# Altium footprint library Connector_PinSocket_1.27mm.PcbLib: 246 footprints (part 7 of 16)
Each footprint in its own frame and in the unit in brackets; x right, y up, seen from the top. Pads: shape width x height; smd on the part's side, far side on the other; paste and mask are expansions set on the pad; w line width, h text height; cw(c..) or ccw(c..) is an arc to the next point about the centre after c.
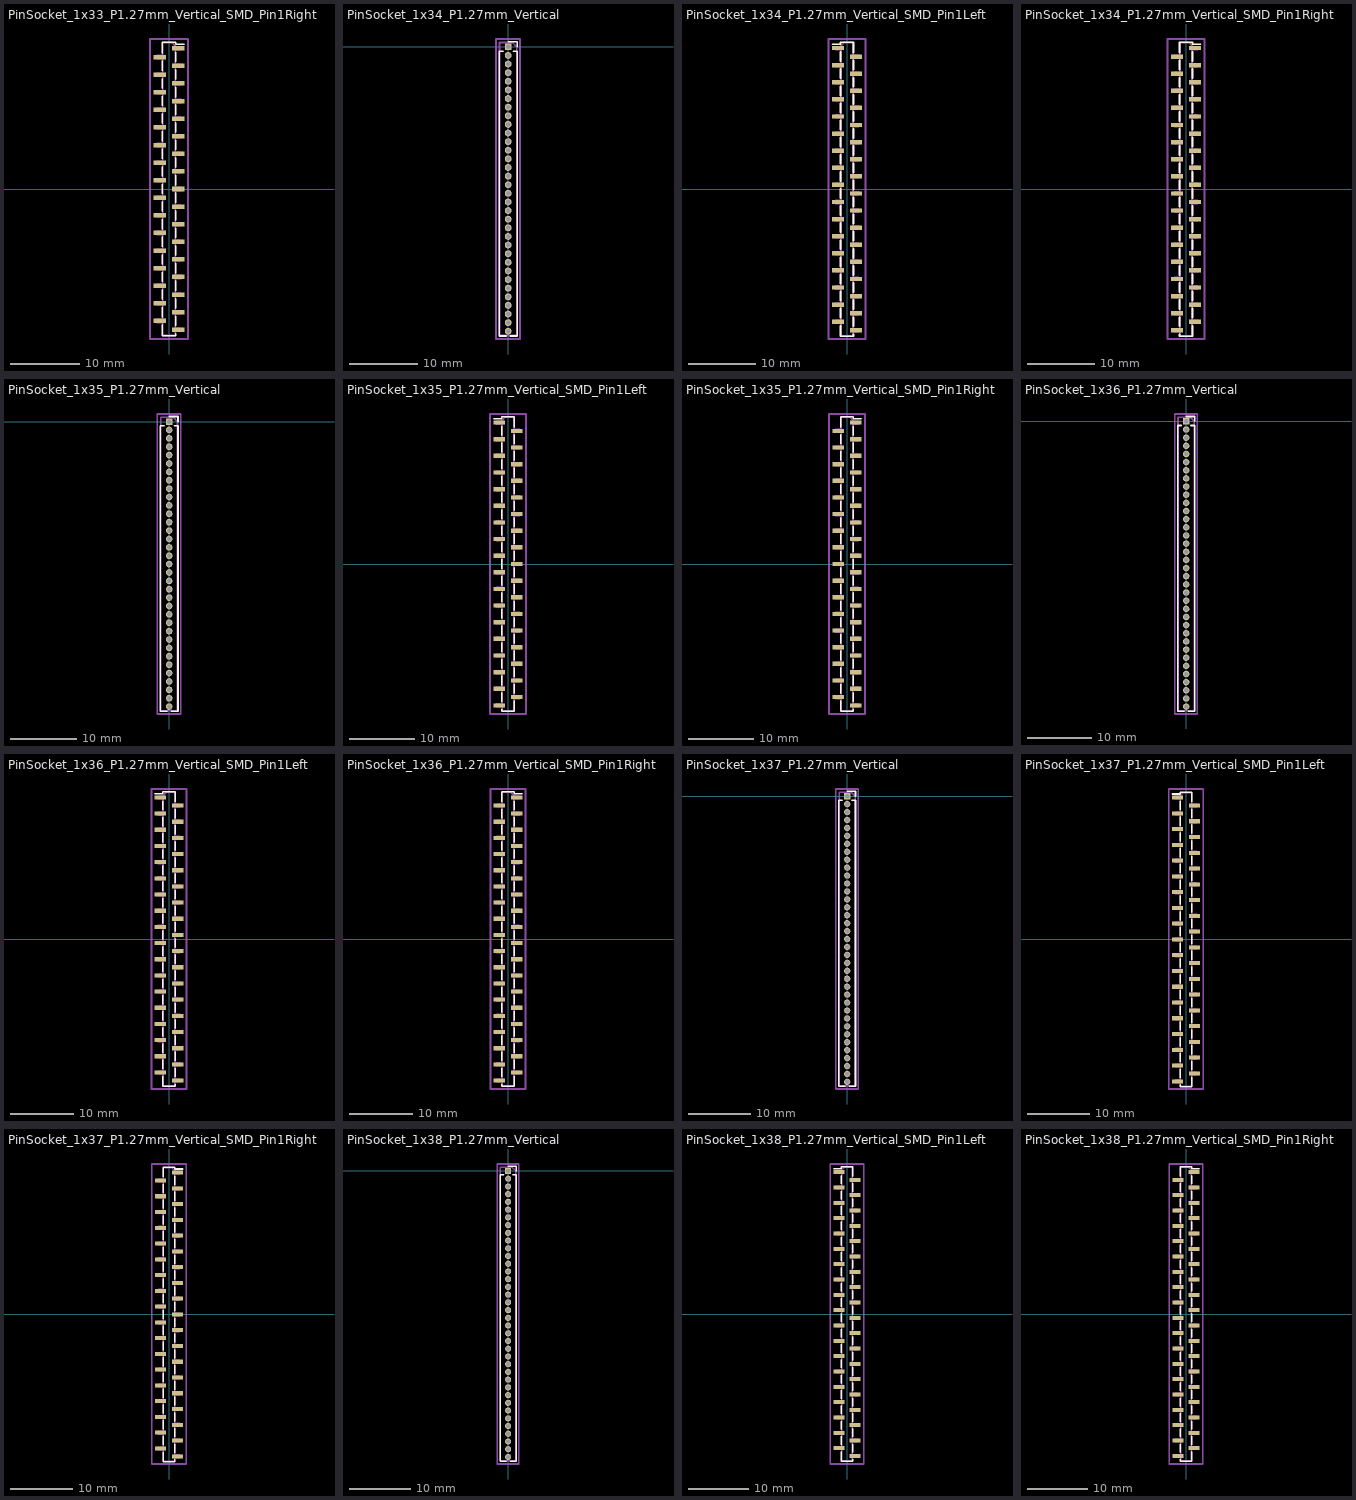
[diagram p6: the footprints below, top view; thin cyan lines are the x and y axes]

## PinSocket_1x33_P1.27mm_Vertical_SMD_Pin1Right [mm]
pads (33):
  rect 1.8x0.65 smd: 1(1.35,20.32) 2(-1.35,19.05) 3(1.35,17.78) 4(-1.35,16.51) 5(1.35,15.24) 6(-1.35,13.97) 7(1.35,12.7) 8(-1.35,11.43) 9(1.35,10.16) 10(-1.35,8.89) 11(1.35,7.62) 12(-1.35,6.35) 13(1.35,5.08) 14(-1.35,3.81) 15(1.35,2.54) 16(-1.35,1.27) 17(1.35,0) 18(-1.35,-1.27) 19(1.35,-2.54) 20(-1.35,-3.81) 21(1.35,-5.08) 22(-1.35,-6.35) 23(1.35,-7.62) 24(-1.35,-8.89) 25(1.35,-10.16) 26(-1.35,-11.43) 27(1.35,-12.7) 28(-1.35,-13.97) 29(1.35,-15.24) 30(-1.35,-16.51) 31(1.35,-17.78) 32(-1.35,-19.05) 33(1.35,-20.32)
F.SilkS:
  lines w0.254: -0.96,-19.635 -0.96,-21.19 0.96,-21.19 0.96,-20.905 ; -0.96,-18.465 -0.96,-17.095 ; -0.96,-15.925 -0.96,-14.555 ; -0.96,-13.385 -0.96,-12.015 ; -0.96,-10.845 -0.96,-9.475 ; -0.96,-8.305 -0.96,-6.935 ; -0.96,-5.765 -0.96,-4.395 ; -0.96,-3.225 -0.96,-1.855 ; -0.96,-0.685 -0.96,0.685 ; -0.96,1.855 -0.96,3.225 ; -0.96,4.395 -0.96,5.765 ; -0.96,6.935 -0.96,8.305 ; -0.96,9.475 -0.96,10.845 ; -0.96,12.015 -0.96,13.385 ; -0.96,14.555 -0.96,15.925 ; -0.96,17.095 -0.96,18.465 ; -0.96,19.635 -0.96,21.19 0.96,21.19 0.96,20.905 2.19,20.905 ; 0.96,-19.735 0.96,-18.365 ; 0.96,-17.195 0.96,-15.825 ; 0.96,-14.655 0.96,-13.285 ; 0.96,-12.115 0.96,-10.745 ; 0.96,-9.575 0.96,-8.205 ; 0.96,-7.035 0.96,-5.665 ; 0.96,-4.495 0.96,-3.125 ; 0.96,-1.955 0.96,-0.585 ; 0.96,0.585 0.96,1.955 ; 0.96,3.125 0.96,4.495 ; 0.96,5.665 0.96,7.035 ; 0.96,8.205 0.96,9.575 ; 0.96,10.745 0.96,12.115 ; 0.96,13.285 0.96,14.655 ; 0.96,15.825 0.96,17.195 ; 0.96,18.365 0.96,19.735
Top Assembly:
  lines w0.254: -0.9,-19.26 -1.75,-19.26 -1.75,-18.84 -0.9,-18.84 ; -0.9,-16.72 -1.75,-16.72 -1.75,-16.3 -0.9,-16.3 ; -0.9,-14.18 -1.75,-14.18 -1.75,-13.76 -0.9,-13.76 ; -0.9,-11.64 -1.75,-11.64 -1.75,-11.22 -0.9,-11.22 ; -0.9,-9.1 -1.75,-9.1 -1.75,-8.68 -0.9,-8.68 ; -0.9,-6.56 -1.75,-6.56 -1.75,-6.14 -0.9,-6.14 ; -0.9,-4.02 -1.75,-4.02 -1.75,-3.6 -0.9,-3.6 ; -0.9,-1.48 -1.75,-1.48 -1.75,-1.06 -0.9,-1.06 ; -0.9,1.06 -1.75,1.06 -1.75,1.48 -0.9,1.48 ; -0.9,3.6 -1.75,3.6 -1.75,4.02 -0.9,4.02 ; -0.9,6.14 -1.75,6.14 -1.75,6.56 -0.9,6.56 ; -0.9,8.68 -1.75,8.68 -1.75,9.1 -0.9,9.1 ; -0.9,11.22 -1.75,11.22 -1.75,11.64 -0.9,11.64 ; -0.9,13.76 -1.75,13.76 -1.75,14.18 -0.9,14.18 ; -0.9,16.3 -1.75,16.3 -1.75,16.72 -0.9,16.72 ; -0.9,18.84 -1.75,18.84 -1.75,19.26 -0.9,19.26 ; 0.9,-20.53 1.75,-20.53 1.75,-20.11 0.9,-20.11 ; 0.9,-17.99 1.75,-17.99 1.75,-17.57 0.9,-17.57 ; 0.9,-15.45 1.75,-15.45 1.75,-15.03 0.9,-15.03 ; 0.9,-12.91 1.75,-12.91 1.75,-12.49 0.9,-12.49 ; 0.9,-10.37 1.75,-10.37 1.75,-9.95 0.9,-9.95 ; 0.9,-7.83 1.75,-7.83 1.75,-7.41 0.9,-7.41 ; 0.9,-5.29 1.75,-5.29 1.75,-4.87 0.9,-4.87 ; 0.9,-2.75 1.75,-2.75 1.75,-2.33 0.9,-2.33 ; 0.9,-0.21 1.75,-0.21 1.75,0.21 0.9,0.21 ; 0.9,2.33 1.75,2.33 1.75,2.75 0.9,2.75 ; 0.9,4.87 1.75,4.87 1.75,5.29 0.9,5.29 ; 0.9,7.41 1.75,7.41 1.75,7.83 0.9,7.83 ; 0.9,9.95 1.75,9.95 1.75,10.37 0.9,10.37 ; 0.9,12.49 1.75,12.49 1.75,12.91 0.9,12.91 ; 0.9,15.03 1.75,15.03 1.75,15.45 0.9,15.45 ; 0.9,17.57 1.75,17.57 1.75,17.99 0.9,17.99 ; 0.9,20.11 1.75,20.11 1.75,20.53 0.9,20.53 ; -0.9,-21.13 0.9,-21.13 0.9,20.68 0.45,21.13 -0.9,21.13 -0.9,-21.13
  text "'.Designator'" at 0.84,-4.047 h1
Top Courtyard:
  lines w0.254: -2.75,-21.65 2.75,-21.65 2.75,21.65 -2.75,21.65 -2.75,-21.65
Top Designator:
  text ".Designator" at -7.618,-0.508 h1.52

## PinSocket_1x34_P1.27mm_Vertical [mm]
pads (34):
  rect 1x1 hole 0.7: 1(0,0)
  round 1 hole 0.7: 2(0,-1.27) 3(0,-2.54) 4(0,-3.81) 5(0,-5.08) 6(0,-6.35) 7(0,-7.62) 8(0,-8.89) 9(0,-10.16) 10(0,-11.43) 11(0,-12.7) 12(0,-13.97) 13(0,-15.24) 14(0,-16.51) 15(0,-17.78) 16(0,-19.05) 17(0,-20.32) 18(0,-21.59) 19(0,-22.86) 20(0,-24.13) 21(0,-25.4) 22(0,-26.67) 23(0,-27.94) 24(0,-29.21) 25(0,-30.48) 26(0,-31.75) 27(0,-33.02) 28(0,-34.29) 29(0,-35.56) 30(0,-36.83) 31(0,-38.1) 32(0,-39.37) 33(0,-40.64) 34(0,-41.91)
F.SilkS:
  lines w0.254: -0.76,-0.635 -1.33,-0.635 -1.33,-42.605 -0.308,-42.605 ; 0,0.76 1.33,0.76 1.33,0 ; 0.308,-42.605 1.33,-42.605 1.33,-0.635 0.76,-0.635
Top Assembly:
  lines w0.254: -1.27,-42.545 1.27,-42.545 1.27,0 0.635,0.635 -1.27,0.635 -1.27,-42.545
  text "'.Designator'" at 0.84,-25.002 h1
Top Courtyard:
  lines w0.254: -1.8,-43.05 1.75,-43.05 1.75,1.15 -1.8,1.15 -1.8,-43.05
Top Designator:
  text ".Designator" at -7.643,-21.458 h1.52

## PinSocket_1x34_P1.27mm_Vertical_SMD_Pin1Left [mm]
pads (34):
  rect 1.8x0.65 smd: 1(-1.35,20.955) 2(1.35,19.685) 3(-1.35,18.415) 4(1.35,17.145) 5(-1.35,15.875) 6(1.35,14.605) 7(-1.35,13.335) 8(1.35,12.065) 9(-1.35,10.795) 10(1.35,9.525) 11(-1.35,8.255) 12(1.35,6.985) 13(-1.35,5.715) 14(1.35,4.445) 15(-1.35,3.175) 16(1.35,1.905) 17(-1.35,0.635) 18(1.35,-0.635) 19(-1.35,-1.905) 20(1.35,-3.175) 21(-1.35,-4.445) 22(1.35,-5.715) 23(-1.35,-6.985) 24(1.35,-8.255) 25(-1.35,-9.525) 26(1.35,-10.795) 27(-1.35,-12.065) 28(1.35,-13.335) 29(-1.35,-14.605) 30(1.35,-15.875) 31(-1.35,-17.145) 32(1.35,-18.415) 33(-1.35,-19.685) 34(1.35,-20.955)
F.SilkS:
  lines w0.254: -2.19,21.54 -0.96,21.54 -0.96,21.825 0.96,21.825 0.96,20.27 ; -0.96,-20.27 -0.96,-21.825 0.96,-21.825 0.96,-21.54 ; -0.96,-19.1 -0.96,-17.73 ; -0.96,-16.56 -0.96,-15.19 ; -0.96,-14.02 -0.96,-12.65 ; -0.96,-11.48 -0.96,-10.11 ; -0.96,-8.94 -0.96,-7.57 ; -0.96,-6.4 -0.96,-5.03 ; -0.96,-3.86 -0.96,-2.49 ; -0.96,-1.32 -0.96,0.05 ; -0.96,1.22 -0.96,2.59 ; -0.96,3.76 -0.96,5.13 ; -0.96,6.3 -0.96,7.67 ; -0.96,8.84 -0.96,10.21 ; -0.96,11.38 -0.96,12.75 ; -0.96,13.92 -0.96,15.29 ; -0.96,16.46 -0.96,17.83 ; -0.96,19 -0.96,20.37 ; 0.96,-20.37 0.96,-19 ; 0.96,-17.83 0.96,-16.46 ; 0.96,-15.29 0.96,-13.92 ; 0.96,-12.75 0.96,-11.38 ; 0.96,-10.21 0.96,-8.84 ; 0.96,-7.67 0.96,-6.3 ; 0.96,-5.13 0.96,-3.76 ; 0.96,-2.59 0.96,-1.22 ; 0.96,-0.05 0.96,1.32 ; 0.96,2.49 0.96,3.86 ; 0.96,5.03 0.96,6.4 ; 0.96,7.57 0.96,8.94 ; 0.96,10.11 0.96,11.48 ; 0.96,12.65 0.96,14.02 ; 0.96,15.19 0.96,16.56 ; 0.96,17.73 0.96,19.1
Top Assembly:
  lines w0.254: -0.9,-19.895 -1.75,-19.895 -1.75,-19.475 -0.9,-19.475 ; -0.9,-17.355 -1.75,-17.355 -1.75,-16.935 -0.9,-16.935 ; -0.9,-14.815 -1.75,-14.815 -1.75,-14.395 -0.9,-14.395 ; -0.9,-12.275 -1.75,-12.275 -1.75,-11.855 -0.9,-11.855 ; -0.9,-9.735 -1.75,-9.735 -1.75,-9.315 -0.9,-9.315 ; -0.9,-7.195 -1.75,-7.195 -1.75,-6.775 -0.9,-6.775 ; -0.9,-4.655 -1.75,-4.655 -1.75,-4.235 -0.9,-4.235 ; -0.9,-2.115 -1.75,-2.115 -1.75,-1.695 -0.9,-1.695 ; -0.9,0.425 -1.75,0.425 -1.75,0.845 -0.9,0.845 ; -0.9,2.965 -1.75,2.965 -1.75,3.385 -0.9,3.385 ; -0.9,5.505 -1.75,5.505 -1.75,5.925 -0.9,5.925 ; -0.9,8.045 -1.75,8.045 -1.75,8.465 -0.9,8.465 ; -0.9,10.585 -1.75,10.585 -1.75,11.005 -0.9,11.005 ; -0.9,13.125 -1.75,13.125 -1.75,13.545 -0.9,13.545 ; -0.9,15.665 -1.75,15.665 -1.75,16.085 -0.9,16.085 ; -0.9,18.205 -1.75,18.205 -1.75,18.625 -0.9,18.625 ; -0.9,20.745 -1.75,20.745 -1.75,21.165 -0.9,21.165 ; 0.9,-21.165 1.75,-21.165 1.75,-20.745 0.9,-20.745 ; 0.9,-18.625 1.75,-18.625 1.75,-18.205 0.9,-18.205 ; 0.9,-16.085 1.75,-16.085 1.75,-15.665 0.9,-15.665 ; 0.9,-13.545 1.75,-13.545 1.75,-13.125 0.9,-13.125 ; 0.9,-11.005 1.75,-11.005 1.75,-10.585 0.9,-10.585 ; 0.9,-8.465 1.75,-8.465 1.75,-8.045 0.9,-8.045 ; 0.9,-5.925 1.75,-5.925 1.75,-5.505 0.9,-5.505 ; 0.9,-3.385 1.75,-3.385 1.75,-2.965 0.9,-2.965 ; 0.9,-0.845 1.75,-0.845 1.75,-0.425 0.9,-0.425 ; 0.9,1.695 1.75,1.695 1.75,2.115 0.9,2.115 ; 0.9,4.235 1.75,4.235 1.75,4.655 0.9,4.655 ; 0.9,6.775 1.75,6.775 1.75,7.195 0.9,7.195 ; 0.9,9.315 1.75,9.315 1.75,9.735 0.9,9.735 ; 0.9,11.855 1.75,11.855 1.75,12.275 0.9,12.275 ; 0.9,14.395 1.75,14.395 1.75,14.815 0.9,14.815 ; 0.9,16.935 1.75,16.935 1.75,17.355 0.9,17.355 ; 0.9,19.475 1.75,19.475 1.75,19.895 0.9,19.895 ; -0.9,-21.765 0.9,-21.765 0.9,21.765 -0.45,21.765 -0.9,21.315 -0.9,-21.765
  text "'.Designator'" at 0.84,-4.047 h1
Top Courtyard:
  lines w0.254: -2.75,-22.25 2.75,-22.25 2.75,22.3 -2.75,22.3 -2.75,-22.25
Top Designator:
  text ".Designator" at -7.618,-0.483 h1.52

## PinSocket_1x34_P1.27mm_Vertical_SMD_Pin1Right [mm]
pads (34):
  rect 1.8x0.65 smd: 1(1.35,20.955) 2(-1.35,19.685) 3(1.35,18.415) 4(-1.35,17.145) 5(1.35,15.875) 6(-1.35,14.605) 7(1.35,13.335) 8(-1.35,12.065) 9(1.35,10.795) 10(-1.35,9.525) 11(1.35,8.255) 12(-1.35,6.985) 13(1.35,5.715) 14(-1.35,4.445) 15(1.35,3.175) 16(-1.35,1.905) 17(1.35,0.635) 18(-1.35,-0.635) 19(1.35,-1.905) 20(-1.35,-3.175) 21(1.35,-4.445) 22(-1.35,-5.715) 23(1.35,-6.985) 24(-1.35,-8.255) 25(1.35,-9.525) 26(-1.35,-10.795) 27(1.35,-12.065) 28(-1.35,-13.335) 29(1.35,-14.605) 30(-1.35,-15.875) 31(1.35,-17.145) 32(-1.35,-18.415) 33(1.35,-19.685) 34(-1.35,-20.955)
F.SilkS:
  lines w0.254: -0.96,-21.54 -0.96,-21.825 0.96,-21.825 0.96,-20.27 ; -0.96,-20.37 -0.96,-19 ; -0.96,-17.83 -0.96,-16.46 ; -0.96,-15.29 -0.96,-13.92 ; -0.96,-12.75 -0.96,-11.38 ; -0.96,-10.21 -0.96,-8.84 ; -0.96,-7.67 -0.96,-6.3 ; -0.96,-5.13 -0.96,-3.76 ; -0.96,-2.59 -0.96,-1.22 ; -0.96,-0.05 -0.96,1.32 ; -0.96,2.49 -0.96,3.86 ; -0.96,5.03 -0.96,6.4 ; -0.96,7.57 -0.96,8.94 ; -0.96,10.11 -0.96,11.48 ; -0.96,12.65 -0.96,14.02 ; -0.96,15.19 -0.96,16.56 ; -0.96,17.73 -0.96,19.1 ; -0.96,20.27 -0.96,21.825 0.96,21.825 0.96,21.54 2.19,21.54 ; 0.96,-19.1 0.96,-17.73 ; 0.96,-16.56 0.96,-15.19 ; 0.96,-14.02 0.96,-12.65 ; 0.96,-11.48 0.96,-10.11 ; 0.96,-8.94 0.96,-7.57 ; 0.96,-6.4 0.96,-5.03 ; 0.96,-3.86 0.96,-2.49 ; 0.96,-1.32 0.96,0.05 ; 0.96,1.22 0.96,2.59 ; 0.96,3.76 0.96,5.13 ; 0.96,6.3 0.96,7.67 ; 0.96,8.84 0.96,10.21 ; 0.96,11.38 0.96,12.75 ; 0.96,13.92 0.96,15.29 ; 0.96,16.46 0.96,17.83 ; 0.96,19 0.96,20.37
Top Assembly:
  lines w0.254: -0.9,-21.165 -1.75,-21.165 -1.75,-20.745 -0.9,-20.745 ; -0.9,-18.625 -1.75,-18.625 -1.75,-18.205 -0.9,-18.205 ; -0.9,-16.085 -1.75,-16.085 -1.75,-15.665 -0.9,-15.665 ; -0.9,-13.545 -1.75,-13.545 -1.75,-13.125 -0.9,-13.125 ; -0.9,-11.005 -1.75,-11.005 -1.75,-10.585 -0.9,-10.585 ; -0.9,-8.465 -1.75,-8.465 -1.75,-8.045 -0.9,-8.045 ; -0.9,-5.925 -1.75,-5.925 -1.75,-5.505 -0.9,-5.505 ; -0.9,-3.385 -1.75,-3.385 -1.75,-2.965 -0.9,-2.965 ; -0.9,-0.845 -1.75,-0.845 -1.75,-0.425 -0.9,-0.425 ; -0.9,1.695 -1.75,1.695 -1.75,2.115 -0.9,2.115 ; -0.9,4.235 -1.75,4.235 -1.75,4.655 -0.9,4.655 ; -0.9,6.775 -1.75,6.775 -1.75,7.195 -0.9,7.195 ; -0.9,9.315 -1.75,9.315 -1.75,9.735 -0.9,9.735 ; -0.9,11.855 -1.75,11.855 -1.75,12.275 -0.9,12.275 ; -0.9,14.395 -1.75,14.395 -1.75,14.815 -0.9,14.815 ; -0.9,16.935 -1.75,16.935 -1.75,17.355 -0.9,17.355 ; -0.9,19.475 -1.75,19.475 -1.75,19.895 -0.9,19.895 ; 0.9,-19.895 1.75,-19.895 1.75,-19.475 0.9,-19.475 ; 0.9,-17.355 1.75,-17.355 1.75,-16.935 0.9,-16.935 ; 0.9,-14.815 1.75,-14.815 1.75,-14.395 0.9,-14.395 ; 0.9,-12.275 1.75,-12.275 1.75,-11.855 0.9,-11.855 ; 0.9,-9.735 1.75,-9.735 1.75,-9.315 0.9,-9.315 ; 0.9,-7.195 1.75,-7.195 1.75,-6.775 0.9,-6.775 ; 0.9,-4.655 1.75,-4.655 1.75,-4.235 0.9,-4.235 ; 0.9,-2.115 1.75,-2.115 1.75,-1.695 0.9,-1.695 ; 0.9,0.425 1.75,0.425 1.75,0.845 0.9,0.845 ; 0.9,2.965 1.75,2.965 1.75,3.385 0.9,3.385 ; 0.9,5.505 1.75,5.505 1.75,5.925 0.9,5.925 ; 0.9,8.045 1.75,8.045 1.75,8.465 0.9,8.465 ; 0.9,10.585 1.75,10.585 1.75,11.005 0.9,11.005 ; 0.9,13.125 1.75,13.125 1.75,13.545 0.9,13.545 ; 0.9,15.665 1.75,15.665 1.75,16.085 0.9,16.085 ; 0.9,18.205 1.75,18.205 1.75,18.625 0.9,18.625 ; 0.9,20.745 1.75,20.745 1.75,21.165 0.9,21.165 ; -0.9,-21.765 0.9,-21.765 0.9,21.315 0.45,21.765 -0.9,21.765 -0.9,-21.765
  text "'.Designator'" at 0.84,-4.047 h1
Top Courtyard:
  lines w0.254: -2.75,-22.25 2.75,-22.25 2.75,22.3 -2.75,22.3 -2.75,-22.25
Top Designator:
  text ".Designator" at -7.618,-0.483 h1.52

## PinSocket_1x35_P1.27mm_Vertical [mm]
pads (35):
  rect 1x1 hole 0.7: 1(0,0)
  round 1 hole 0.7: 2(0,-1.27) 3(0,-2.54) 4(0,-3.81) 5(0,-5.08) 6(0,-6.35) 7(0,-7.62) 8(0,-8.89) 9(0,-10.16) 10(0,-11.43) 11(0,-12.7) 12(0,-13.97) 13(0,-15.24) 14(0,-16.51) 15(0,-17.78) 16(0,-19.05) 17(0,-20.32) 18(0,-21.59) 19(0,-22.86) 20(0,-24.13) 21(0,-25.4) 22(0,-26.67) 23(0,-27.94) 24(0,-29.21) 25(0,-30.48) 26(0,-31.75) 27(0,-33.02) 28(0,-34.29) 29(0,-35.56) 30(0,-36.83) 31(0,-38.1) 32(0,-39.37) 33(0,-40.64) 34(0,-41.91) 35(0,-43.18)
F.SilkS:
  lines w0.254: -0.76,-0.635 -1.33,-0.635 -1.33,-43.875 -0.308,-43.875 ; 0,0.76 1.33,0.76 1.33,0 ; 0.308,-43.875 1.33,-43.875 1.33,-0.635 0.76,-0.635
Top Assembly:
  lines w0.254: -1.27,-43.815 1.27,-43.815 1.27,0 0.635,0.635 -1.27,0.635 -1.27,-43.815
  text "'.Designator'" at 0.84,-25.637 h1
Top Courtyard:
  lines w0.254: -1.8,-44.3 1.75,-44.3 1.75,1.15 -1.8,1.15 -1.8,-44.3
Top Designator:
  text ".Designator" at -7.643,-22.083 h1.52

## PinSocket_1x35_P1.27mm_Vertical_SMD_Pin1Left [mm]
pads (35):
  rect 1.8x0.65 smd: 1(-1.35,21.59) 2(1.35,20.32) 3(-1.35,19.05) 4(1.35,17.78) 5(-1.35,16.51) 6(1.35,15.24) 7(-1.35,13.97) 8(1.35,12.7) 9(-1.35,11.43) 10(1.35,10.16) 11(-1.35,8.89) 12(1.35,7.62) 13(-1.35,6.35) 14(1.35,5.08) 15(-1.35,3.81) 16(1.35,2.54) 17(-1.35,1.27) 18(1.35,0) 19(-1.35,-1.27) 20(1.35,-2.54) 21(-1.35,-3.81) 22(1.35,-5.08) 23(-1.35,-6.35) 24(1.35,-7.62) 25(-1.35,-8.89) 26(1.35,-10.16) 27(-1.35,-11.43) 28(1.35,-12.7) 29(-1.35,-13.97) 30(1.35,-15.24) 31(-1.35,-16.51) 32(1.35,-17.78) 33(-1.35,-19.05) 34(1.35,-20.32) 35(-1.35,-21.59)
F.SilkS:
  lines w0.254: -2.19,22.175 -0.96,22.175 -0.96,22.46 0.96,22.46 0.96,20.905 ; -0.96,-22.175 -0.96,-22.46 0.96,-22.46 0.96,-20.905 ; -0.96,-21.005 -0.96,-19.635 ; -0.96,-18.465 -0.96,-17.095 ; -0.96,-15.925 -0.96,-14.555 ; -0.96,-13.385 -0.96,-12.015 ; -0.96,-10.845 -0.96,-9.475 ; -0.96,-8.305 -0.96,-6.935 ; -0.96,-5.765 -0.96,-4.395 ; -0.96,-3.225 -0.96,-1.855 ; -0.96,-0.685 -0.96,0.685 ; -0.96,1.855 -0.96,3.225 ; -0.96,4.395 -0.96,5.765 ; -0.96,6.935 -0.96,8.305 ; -0.96,9.475 -0.96,10.845 ; -0.96,12.015 -0.96,13.385 ; -0.96,14.555 -0.96,15.925 ; -0.96,17.095 -0.96,18.465 ; -0.96,19.635 -0.96,21.005 ; 0.96,-19.735 0.96,-18.365 ; 0.96,-17.195 0.96,-15.825 ; 0.96,-14.655 0.96,-13.285 ; 0.96,-12.115 0.96,-10.745 ; 0.96,-9.575 0.96,-8.205 ; 0.96,-7.035 0.96,-5.665 ; 0.96,-4.495 0.96,-3.125 ; 0.96,-1.955 0.96,-0.585 ; 0.96,0.585 0.96,1.955 ; 0.96,3.125 0.96,4.495 ; 0.96,5.665 0.96,7.035 ; 0.96,8.205 0.96,9.575 ; 0.96,10.745 0.96,12.115 ; 0.96,13.285 0.96,14.655 ; 0.96,15.825 0.96,17.195 ; 0.96,18.365 0.96,19.735
Top Assembly:
  lines w0.254: -0.9,-21.8 -1.75,-21.8 -1.75,-21.38 -0.9,-21.38 ; -0.9,-19.26 -1.75,-19.26 -1.75,-18.84 -0.9,-18.84 ; -0.9,-16.72 -1.75,-16.72 -1.75,-16.3 -0.9,-16.3 ; -0.9,-14.18 -1.75,-14.18 -1.75,-13.76 -0.9,-13.76 ; -0.9,-11.64 -1.75,-11.64 -1.75,-11.22 -0.9,-11.22 ; -0.9,-9.1 -1.75,-9.1 -1.75,-8.68 -0.9,-8.68 ; -0.9,-6.56 -1.75,-6.56 -1.75,-6.14 -0.9,-6.14 ; -0.9,-4.02 -1.75,-4.02 -1.75,-3.6 -0.9,-3.6 ; -0.9,-1.48 -1.75,-1.48 -1.75,-1.06 -0.9,-1.06 ; -0.9,1.06 -1.75,1.06 -1.75,1.48 -0.9,1.48 ; -0.9,3.6 -1.75,3.6 -1.75,4.02 -0.9,4.02 ; -0.9,6.14 -1.75,6.14 -1.75,6.56 -0.9,6.56 ; -0.9,8.68 -1.75,8.68 -1.75,9.1 -0.9,9.1 ; -0.9,11.22 -1.75,11.22 -1.75,11.64 -0.9,11.64 ; -0.9,13.76 -1.75,13.76 -1.75,14.18 -0.9,14.18 ; -0.9,16.3 -1.75,16.3 -1.75,16.72 -0.9,16.72 ; -0.9,18.84 -1.75,18.84 -1.75,19.26 -0.9,19.26 ; -0.9,21.38 -1.75,21.38 -1.75,21.8 -0.9,21.8 ; 0.9,-20.53 1.75,-20.53 1.75,-20.11 0.9,-20.11 ; 0.9,-17.99 1.75,-17.99 1.75,-17.57 0.9,-17.57 ; 0.9,-15.45 1.75,-15.45 1.75,-15.03 0.9,-15.03 ; 0.9,-12.91 1.75,-12.91 1.75,-12.49 0.9,-12.49 ; 0.9,-10.37 1.75,-10.37 1.75,-9.95 0.9,-9.95 ; 0.9,-7.83 1.75,-7.83 1.75,-7.41 0.9,-7.41 ; 0.9,-5.29 1.75,-5.29 1.75,-4.87 0.9,-4.87 ; 0.9,-2.75 1.75,-2.75 1.75,-2.33 0.9,-2.33 ; 0.9,-0.21 1.75,-0.21 1.75,0.21 0.9,0.21 ; 0.9,2.33 1.75,2.33 1.75,2.75 0.9,2.75 ; 0.9,4.87 1.75,4.87 1.75,5.29 0.9,5.29 ; 0.9,7.41 1.75,7.41 1.75,7.83 0.9,7.83 ; 0.9,9.95 1.75,9.95 1.75,10.37 0.9,10.37 ; 0.9,12.49 1.75,12.49 1.75,12.91 0.9,12.91 ; 0.9,15.03 1.75,15.03 1.75,15.45 0.9,15.45 ; 0.9,17.57 1.75,17.57 1.75,17.99 0.9,17.99 ; 0.9,20.11 1.75,20.11 1.75,20.53 0.9,20.53 ; -0.9,-22.4 0.9,-22.4 0.9,22.4 -0.45,22.4 -0.9,21.95 -0.9,-22.4
  text "'.Designator'" at 0.84,-4.047 h1
Top Courtyard:
  lines w0.254: -2.75,-22.9 2.75,-22.9 2.75,22.9 -2.75,22.9 -2.75,-22.9
Top Designator:
  text ".Designator" at -7.618,-0.508 h1.52

## PinSocket_1x35_P1.27mm_Vertical_SMD_Pin1Right [mm]
pads (35):
  rect 1.8x0.65 smd: 1(1.35,21.59) 2(-1.35,20.32) 3(1.35,19.05) 4(-1.35,17.78) 5(1.35,16.51) 6(-1.35,15.24) 7(1.35,13.97) 8(-1.35,12.7) 9(1.35,11.43) 10(-1.35,10.16) 11(1.35,8.89) 12(-1.35,7.62) 13(1.35,6.35) 14(-1.35,5.08) 15(1.35,3.81) 16(-1.35,2.54) 17(1.35,1.27) 18(-1.35,0) 19(1.35,-1.27) 20(-1.35,-2.54) 21(1.35,-3.81) 22(-1.35,-5.08) 23(1.35,-6.35) 24(-1.35,-7.62) 25(1.35,-8.89) 26(-1.35,-10.16) 27(1.35,-11.43) 28(-1.35,-12.7) 29(1.35,-13.97) 30(-1.35,-15.24) 31(1.35,-16.51) 32(-1.35,-17.78) 33(1.35,-19.05) 34(-1.35,-20.32) 35(1.35,-21.59)
F.SilkS:
  lines w0.254: -0.96,-20.905 -0.96,-22.46 0.96,-22.46 0.96,-22.175 ; -0.96,-19.735 -0.96,-18.365 ; -0.96,-17.195 -0.96,-15.825 ; -0.96,-14.655 -0.96,-13.285 ; -0.96,-12.115 -0.96,-10.745 ; -0.96,-9.575 -0.96,-8.205 ; -0.96,-7.035 -0.96,-5.665 ; -0.96,-4.495 -0.96,-3.125 ; -0.96,-1.955 -0.96,-0.585 ; -0.96,0.585 -0.96,1.955 ; -0.96,3.125 -0.96,4.495 ; -0.96,5.665 -0.96,7.035 ; -0.96,8.205 -0.96,9.575 ; -0.96,10.745 -0.96,12.115 ; -0.96,13.285 -0.96,14.655 ; -0.96,15.825 -0.96,17.195 ; -0.96,18.365 -0.96,19.735 ; -0.96,20.905 -0.96,22.46 0.96,22.46 0.96,22.175 2.19,22.175 ; 0.96,-21.005 0.96,-19.635 ; 0.96,-18.465 0.96,-17.095 ; 0.96,-15.925 0.96,-14.555 ; 0.96,-13.385 0.96,-12.015 ; 0.96,-10.845 0.96,-9.475 ; 0.96,-8.305 0.96,-6.935 ; 0.96,-5.765 0.96,-4.395 ; 0.96,-3.225 0.96,-1.855 ; 0.96,-0.685 0.96,0.685 ; 0.96,1.855 0.96,3.225 ; 0.96,4.395 0.96,5.765 ; 0.96,6.935 0.96,8.305 ; 0.96,9.475 0.96,10.845 ; 0.96,12.015 0.96,13.385 ; 0.96,14.555 0.96,15.925 ; 0.96,17.095 0.96,18.465 ; 0.96,19.635 0.96,21.005
Top Assembly:
  lines w0.254: -0.9,-20.53 -1.75,-20.53 -1.75,-20.11 -0.9,-20.11 ; -0.9,-17.99 -1.75,-17.99 -1.75,-17.57 -0.9,-17.57 ; -0.9,-15.45 -1.75,-15.45 -1.75,-15.03 -0.9,-15.03 ; -0.9,-12.91 -1.75,-12.91 -1.75,-12.49 -0.9,-12.49 ; -0.9,-10.37 -1.75,-10.37 -1.75,-9.95 -0.9,-9.95 ; -0.9,-7.83 -1.75,-7.83 -1.75,-7.41 -0.9,-7.41 ; -0.9,-5.29 -1.75,-5.29 -1.75,-4.87 -0.9,-4.87 ; -0.9,-2.75 -1.75,-2.75 -1.75,-2.33 -0.9,-2.33 ; -0.9,-0.21 -1.75,-0.21 -1.75,0.21 -0.9,0.21 ; -0.9,2.33 -1.75,2.33 -1.75,2.75 -0.9,2.75 ; -0.9,4.87 -1.75,4.87 -1.75,5.29 -0.9,5.29 ; -0.9,7.41 -1.75,7.41 -1.75,7.83 -0.9,7.83 ; -0.9,9.95 -1.75,9.95 -1.75,10.37 -0.9,10.37 ; -0.9,12.49 -1.75,12.49 -1.75,12.91 -0.9,12.91 ; -0.9,15.03 -1.75,15.03 -1.75,15.45 -0.9,15.45 ; -0.9,17.57 -1.75,17.57 -1.75,17.99 -0.9,17.99 ; -0.9,20.11 -1.75,20.11 -1.75,20.53 -0.9,20.53 ; 0.9,-21.8 1.75,-21.8 1.75,-21.38 0.9,-21.38 ; 0.9,-19.26 1.75,-19.26 1.75,-18.84 0.9,-18.84 ; 0.9,-16.72 1.75,-16.72 1.75,-16.3 0.9,-16.3 ; 0.9,-14.18 1.75,-14.18 1.75,-13.76 0.9,-13.76 ; 0.9,-11.64 1.75,-11.64 1.75,-11.22 0.9,-11.22 ; 0.9,-9.1 1.75,-9.1 1.75,-8.68 0.9,-8.68 ; 0.9,-6.56 1.75,-6.56 1.75,-6.14 0.9,-6.14 ; 0.9,-4.02 1.75,-4.02 1.75,-3.6 0.9,-3.6 ; 0.9,-1.48 1.75,-1.48 1.75,-1.06 0.9,-1.06 ; 0.9,1.06 1.75,1.06 1.75,1.48 0.9,1.48 ; 0.9,3.6 1.75,3.6 1.75,4.02 0.9,4.02 ; 0.9,6.14 1.75,6.14 1.75,6.56 0.9,6.56 ; 0.9,8.68 1.75,8.68 1.75,9.1 0.9,9.1 ; 0.9,11.22 1.75,11.22 1.75,11.64 0.9,11.64 ; 0.9,13.76 1.75,13.76 1.75,14.18 0.9,14.18 ; 0.9,16.3 1.75,16.3 1.75,16.72 0.9,16.72 ; 0.9,18.84 1.75,18.84 1.75,19.26 0.9,19.26 ; 0.9,21.38 1.75,21.38 1.75,21.8 0.9,21.8 ; -0.9,-22.4 0.9,-22.4 0.9,21.95 0.45,22.4 -0.9,22.4 -0.9,-22.4
  text "'.Designator'" at 0.84,-4.047 h1
Top Courtyard:
  lines w0.254: -2.75,-22.9 2.75,-22.9 2.75,22.9 -2.75,22.9 -2.75,-22.9
Top Designator:
  text ".Designator" at -7.618,-0.508 h1.52

## PinSocket_1x36_P1.27mm_Vertical [mm]
pads (36):
  rect 1x1 hole 0.7: 1(0,0)
  round 1 hole 0.7: 2(0,-1.27) 3(0,-2.54) 4(0,-3.81) 5(0,-5.08) 6(0,-6.35) 7(0,-7.62) 8(0,-8.89) 9(0,-10.16) 10(0,-11.43) 11(0,-12.7) 12(0,-13.97) 13(0,-15.24) 14(0,-16.51) 15(0,-17.78) 16(0,-19.05) 17(0,-20.32) 18(0,-21.59) 19(0,-22.86) 20(0,-24.13) 21(0,-25.4) 22(0,-26.67) 23(0,-27.94) 24(0,-29.21) 25(0,-30.48) 26(0,-31.75) 27(0,-33.02) 28(0,-34.29) 29(0,-35.56) 30(0,-36.83) 31(0,-38.1) 32(0,-39.37) 33(0,-40.64) 34(0,-41.91) 35(0,-43.18) 36(0,-44.45)
F.SilkS:
  lines w0.254: -0.76,-0.635 -1.33,-0.635 -1.33,-45.145 -0.308,-45.145 ; 0,0.76 1.33,0.76 1.33,0 ; 0.308,-45.145 1.33,-45.145 1.33,-0.635 0.76,-0.635
Top Assembly:
  lines w0.254: -1.27,-45.085 1.27,-45.085 1.27,0 0.635,0.635 -1.27,0.635 -1.27,-45.085
  text "'.Designator'" at 0.84,-26.272 h1
Top Courtyard:
  lines w0.254: -1.8,-45.6 1.75,-45.6 1.75,1.15 -1.8,1.15 -1.8,-45.6
Top Designator:
  text ".Designator" at -7.643,-22.733 h1.52

## PinSocket_1x36_P1.27mm_Vertical_SMD_Pin1Left [mm]
pads (36):
  rect 1.8x0.65 smd: 1(-1.35,22.225) 2(1.35,20.955) 3(-1.35,19.685) 4(1.35,18.415) 5(-1.35,17.145) 6(1.35,15.875) 7(-1.35,14.605) 8(1.35,13.335) 9(-1.35,12.065) 10(1.35,10.795) 11(-1.35,9.525) 12(1.35,8.255) 13(-1.35,6.985) 14(1.35,5.715) 15(-1.35,4.445) 16(1.35,3.175) 17(-1.35,1.905) 18(1.35,0.635) 19(-1.35,-0.635) 20(1.35,-1.905) 21(-1.35,-3.175) 22(1.35,-4.445) 23(-1.35,-5.715) 24(1.35,-6.985) 25(-1.35,-8.255) 26(1.35,-9.525) 27(-1.35,-10.795) 28(1.35,-12.065) 29(-1.35,-13.335) 30(1.35,-14.605) 31(-1.35,-15.875) 32(1.35,-17.145) 33(-1.35,-18.415) 34(1.35,-19.685) 35(-1.35,-20.955) 36(1.35,-22.225)
F.SilkS:
  lines w0.254: -2.19,22.81 -0.96,22.81 -0.96,23.095 0.96,23.095 0.96,21.54 ; -0.96,-21.54 -0.96,-23.095 0.96,-23.095 0.96,-22.81 ; -0.96,-20.37 -0.96,-19 ; -0.96,-17.83 -0.96,-16.46 ; -0.96,-15.29 -0.96,-13.92 ; -0.96,-12.75 -0.96,-11.38 ; -0.96,-10.21 -0.96,-8.84 ; -0.96,-7.67 -0.96,-6.3 ; -0.96,-5.13 -0.96,-3.76 ; -0.96,-2.59 -0.96,-1.22 ; -0.96,-0.05 -0.96,1.32 ; -0.96,2.49 -0.96,3.86 ; -0.96,5.03 -0.96,6.4 ; -0.96,7.57 -0.96,8.94 ; -0.96,10.11 -0.96,11.48 ; -0.96,12.65 -0.96,14.02 ; -0.96,15.19 -0.96,16.56 ; -0.96,17.73 -0.96,19.1 ; -0.96,20.27 -0.96,21.64 ; 0.96,-21.64 0.96,-20.27 ; 0.96,-19.1 0.96,-17.73 ; 0.96,-16.56 0.96,-15.19 ; 0.96,-14.02 0.96,-12.65 ; 0.96,-11.48 0.96,-10.11 ; 0.96,-8.94 0.96,-7.57 ; 0.96,-6.4 0.96,-5.03 ; 0.96,-3.86 0.96,-2.49 ; 0.96,-1.32 0.96,0.05 ; 0.96,1.22 0.96,2.59 ; 0.96,3.76 0.96,5.13 ; 0.96,6.3 0.96,7.67 ; 0.96,8.84 0.96,10.21 ; 0.96,11.38 0.96,12.75 ; 0.96,13.92 0.96,15.29 ; 0.96,16.46 0.96,17.83 ; 0.96,19 0.96,20.37
Top Assembly:
  lines w0.254: -0.9,-21.165 -1.75,-21.165 -1.75,-20.745 -0.9,-20.745 ; -0.9,-18.625 -1.75,-18.625 -1.75,-18.205 -0.9,-18.205 ; -0.9,-16.085 -1.75,-16.085 -1.75,-15.665 -0.9,-15.665 ; -0.9,-13.545 -1.75,-13.545 -1.75,-13.125 -0.9,-13.125 ; -0.9,-11.005 -1.75,-11.005 -1.75,-10.585 -0.9,-10.585 ; -0.9,-8.465 -1.75,-8.465 -1.75,-8.045 -0.9,-8.045 ; -0.9,-5.925 -1.75,-5.925 -1.75,-5.505 -0.9,-5.505 ; -0.9,-3.385 -1.75,-3.385 -1.75,-2.965 -0.9,-2.965 ; -0.9,-0.845 -1.75,-0.845 -1.75,-0.425 -0.9,-0.425 ; -0.9,1.695 -1.75,1.695 -1.75,2.115 -0.9,2.115 ; -0.9,4.235 -1.75,4.235 -1.75,4.655 -0.9,4.655 ; -0.9,6.775 -1.75,6.775 -1.75,7.195 -0.9,7.195 ; -0.9,9.315 -1.75,9.315 -1.75,9.735 -0.9,9.735 ; -0.9,11.855 -1.75,11.855 -1.75,12.275 -0.9,12.275 ; -0.9,14.395 -1.75,14.395 -1.75,14.815 -0.9,14.815 ; -0.9,16.935 -1.75,16.935 -1.75,17.355 -0.9,17.355 ; -0.9,19.475 -1.75,19.475 -1.75,19.895 -0.9,19.895 ; -0.9,22.015 -1.75,22.015 -1.75,22.435 -0.9,22.435 ; 0.9,-22.435 1.75,-22.435 1.75,-22.015 0.9,-22.015 ; 0.9,-19.895 1.75,-19.895 1.75,-19.475 0.9,-19.475 ; 0.9,-17.355 1.75,-17.355 1.75,-16.935 0.9,-16.935 ; 0.9,-14.815 1.75,-14.815 1.75,-14.395 0.9,-14.395 ; 0.9,-12.275 1.75,-12.275 1.75,-11.855 0.9,-11.855 ; 0.9,-9.735 1.75,-9.735 1.75,-9.315 0.9,-9.315 ; 0.9,-7.195 1.75,-7.195 1.75,-6.775 0.9,-6.775 ; 0.9,-4.655 1.75,-4.655 1.75,-4.235 0.9,-4.235 ; 0.9,-2.115 1.75,-2.115 1.75,-1.695 0.9,-1.695 ; 0.9,0.425 1.75,0.425 1.75,0.845 0.9,0.845 ; 0.9,2.965 1.75,2.965 1.75,3.385 0.9,3.385 ; 0.9,5.505 1.75,5.505 1.75,5.925 0.9,5.925 ; 0.9,8.045 1.75,8.045 1.75,8.465 0.9,8.465 ; 0.9,10.585 1.75,10.585 1.75,11.005 0.9,11.005 ; 0.9,13.125 1.75,13.125 1.75,13.545 0.9,13.545 ; 0.9,15.665 1.75,15.665 1.75,16.085 0.9,16.085 ; 0.9,18.205 1.75,18.205 1.75,18.625 0.9,18.625 ; 0.9,20.745 1.75,20.745 1.75,21.165 0.9,21.165 ; -0.9,-23.035 0.9,-23.035 0.9,23.035 -0.45,23.035 -0.9,22.585 -0.9,-23.035
  text "'.Designator'" at 0.84,-4.047 h1
Top Courtyard:
  lines w0.254: -2.75,-23.55 2.75,-23.55 2.75,23.55 -2.75,23.55 -2.75,-23.55
Top Designator:
  text ".Designator" at -7.618,-0.508 h1.52

## PinSocket_1x36_P1.27mm_Vertical_SMD_Pin1Right [mm]
pads (36):
  rect 1.8x0.65 smd: 1(1.35,22.225) 2(-1.35,20.955) 3(1.35,19.685) 4(-1.35,18.415) 5(1.35,17.145) 6(-1.35,15.875) 7(1.35,14.605) 8(-1.35,13.335) 9(1.35,12.065) 10(-1.35,10.795) 11(1.35,9.525) 12(-1.35,8.255) 13(1.35,6.985) 14(-1.35,5.715) 15(1.35,4.445) 16(-1.35,3.175) 17(1.35,1.905) 18(-1.35,0.635) 19(1.35,-0.635) 20(-1.35,-1.905) 21(1.35,-3.175) 22(-1.35,-4.445) 23(1.35,-5.715) 24(-1.35,-6.985) 25(1.35,-8.255) 26(-1.35,-9.525) 27(1.35,-10.795) 28(-1.35,-12.065) 29(1.35,-13.335) 30(-1.35,-14.605) 31(1.35,-15.875) 32(-1.35,-17.145) 33(1.35,-18.415) 34(-1.35,-19.685) 35(1.35,-20.955) 36(-1.35,-22.225)
F.SilkS:
  lines w0.254: -0.96,-22.81 -0.96,-23.095 0.96,-23.095 0.96,-21.54 ; -0.96,-21.64 -0.96,-20.27 ; -0.96,-19.1 -0.96,-17.73 ; -0.96,-16.56 -0.96,-15.19 ; -0.96,-14.02 -0.96,-12.65 ; -0.96,-11.48 -0.96,-10.11 ; -0.96,-8.94 -0.96,-7.57 ; -0.96,-6.4 -0.96,-5.03 ; -0.96,-3.86 -0.96,-2.49 ; -0.96,-1.32 -0.96,0.05 ; -0.96,1.22 -0.96,2.59 ; -0.96,3.76 -0.96,5.13 ; -0.96,6.3 -0.96,7.67 ; -0.96,8.84 -0.96,10.21 ; -0.96,11.38 -0.96,12.75 ; -0.96,13.92 -0.96,15.29 ; -0.96,16.46 -0.96,17.83 ; -0.96,19 -0.96,20.37 ; -0.96,21.54 -0.96,23.095 0.96,23.095 0.96,22.81 2.19,22.81 ; 0.96,-20.37 0.96,-19 ; 0.96,-17.83 0.96,-16.46 ; 0.96,-15.29 0.96,-13.92 ; 0.96,-12.75 0.96,-11.38 ; 0.96,-10.21 0.96,-8.84 ; 0.96,-7.67 0.96,-6.3 ; 0.96,-5.13 0.96,-3.76 ; 0.96,-2.59 0.96,-1.22 ; 0.96,-0.05 0.96,1.32 ; 0.96,2.49 0.96,3.86 ; 0.96,5.03 0.96,6.4 ; 0.96,7.57 0.96,8.94 ; 0.96,10.11 0.96,11.48 ; 0.96,12.65 0.96,14.02 ; 0.96,15.19 0.96,16.56 ; 0.96,17.73 0.96,19.1 ; 0.96,20.27 0.96,21.64
Top Assembly:
  lines w0.254: -0.9,-22.435 -1.75,-22.435 -1.75,-22.015 -0.9,-22.015 ; -0.9,-19.895 -1.75,-19.895 -1.75,-19.475 -0.9,-19.475 ; -0.9,-17.355 -1.75,-17.355 -1.75,-16.935 -0.9,-16.935 ; -0.9,-14.815 -1.75,-14.815 -1.75,-14.395 -0.9,-14.395 ; -0.9,-12.275 -1.75,-12.275 -1.75,-11.855 -0.9,-11.855 ; -0.9,-9.735 -1.75,-9.735 -1.75,-9.315 -0.9,-9.315 ; -0.9,-7.195 -1.75,-7.195 -1.75,-6.775 -0.9,-6.775 ; -0.9,-4.655 -1.75,-4.655 -1.75,-4.235 -0.9,-4.235 ; -0.9,-2.115 -1.75,-2.115 -1.75,-1.695 -0.9,-1.695 ; -0.9,0.425 -1.75,0.425 -1.75,0.845 -0.9,0.845 ; -0.9,2.965 -1.75,2.965 -1.75,3.385 -0.9,3.385 ; -0.9,5.505 -1.75,5.505 -1.75,5.925 -0.9,5.925 ; -0.9,8.045 -1.75,8.045 -1.75,8.465 -0.9,8.465 ; -0.9,10.585 -1.75,10.585 -1.75,11.005 -0.9,11.005 ; -0.9,13.125 -1.75,13.125 -1.75,13.545 -0.9,13.545 ; -0.9,15.665 -1.75,15.665 -1.75,16.085 -0.9,16.085 ; -0.9,18.205 -1.75,18.205 -1.75,18.625 -0.9,18.625 ; -0.9,20.745 -1.75,20.745 -1.75,21.165 -0.9,21.165 ; 0.9,-21.165 1.75,-21.165 1.75,-20.745 0.9,-20.745 ; 0.9,-18.625 1.75,-18.625 1.75,-18.205 0.9,-18.205 ; 0.9,-16.085 1.75,-16.085 1.75,-15.665 0.9,-15.665 ; 0.9,-13.545 1.75,-13.545 1.75,-13.125 0.9,-13.125 ; 0.9,-11.005 1.75,-11.005 1.75,-10.585 0.9,-10.585 ; 0.9,-8.465 1.75,-8.465 1.75,-8.045 0.9,-8.045 ; 0.9,-5.925 1.75,-5.925 1.75,-5.505 0.9,-5.505 ; 0.9,-3.385 1.75,-3.385 1.75,-2.965 0.9,-2.965 ; 0.9,-0.845 1.75,-0.845 1.75,-0.425 0.9,-0.425 ; 0.9,1.695 1.75,1.695 1.75,2.115 0.9,2.115 ; 0.9,4.235 1.75,4.235 1.75,4.655 0.9,4.655 ; 0.9,6.775 1.75,6.775 1.75,7.195 0.9,7.195 ; 0.9,9.315 1.75,9.315 1.75,9.735 0.9,9.735 ; 0.9,11.855 1.75,11.855 1.75,12.275 0.9,12.275 ; 0.9,14.395 1.75,14.395 1.75,14.815 0.9,14.815 ; 0.9,16.935 1.75,16.935 1.75,17.355 0.9,17.355 ; 0.9,19.475 1.75,19.475 1.75,19.895 0.9,19.895 ; 0.9,22.015 1.75,22.015 1.75,22.435 0.9,22.435 ; -0.9,-23.035 0.9,-23.035 0.9,22.585 0.45,23.035 -0.9,23.035 -0.9,-23.035
  text "'.Designator'" at 0.84,-4.047 h1
Top Courtyard:
  lines w0.254: -2.75,-23.55 2.75,-23.55 2.75,23.55 -2.75,23.55 -2.75,-23.55
Top Designator:
  text ".Designator" at -7.618,-0.508 h1.52

## PinSocket_1x37_P1.27mm_Vertical [mm]
pads (37):
  rect 1x1 hole 0.7: 1(0,0)
  round 1 hole 0.7: 2(0,-1.27) 3(0,-2.54) 4(0,-3.81) 5(0,-5.08) 6(0,-6.35) 7(0,-7.62) 8(0,-8.89) 9(0,-10.16) 10(0,-11.43) 11(0,-12.7) 12(0,-13.97) 13(0,-15.24) 14(0,-16.51) 15(0,-17.78) 16(0,-19.05) 17(0,-20.32) 18(0,-21.59) 19(0,-22.86) 20(0,-24.13) 21(0,-25.4) 22(0,-26.67) 23(0,-27.94) 24(0,-29.21) 25(0,-30.48) 26(0,-31.75) 27(0,-33.02) 28(0,-34.29) 29(0,-35.56) 30(0,-36.83) 31(0,-38.1) 32(0,-39.37) 33(0,-40.64) 34(0,-41.91) 35(0,-43.18) 36(0,-44.45) 37(0,-45.72)
F.SilkS:
  lines w0.254: -0.76,-0.635 -1.33,-0.635 -1.33,-46.415 -0.308,-46.415 ; 0,0.76 1.33,0.76 1.33,0 ; 0.308,-46.415 1.33,-46.415 1.33,-0.635 0.76,-0.635
Top Assembly:
  lines w0.254: -1.27,-46.355 1.27,-46.355 1.27,0 0.635,0.635 -1.27,0.635 -1.27,-46.355
  text "'.Designator'" at 0.84,-26.907 h1
Top Courtyard:
  lines w0.254: -1.8,-46.85 1.75,-46.85 1.75,1.15 -1.8,1.15 -1.8,-46.85
Top Designator:
  text ".Designator" at -7.643,-23.358 h1.52

## PinSocket_1x37_P1.27mm_Vertical_SMD_Pin1Left [mm]
pads (37):
  rect 1.8x0.65 smd: 1(-1.35,22.86) 2(1.35,21.59) 3(-1.35,20.32) 4(1.35,19.05) 5(-1.35,17.78) 6(1.35,16.51) 7(-1.35,15.24) 8(1.35,13.97) 9(-1.35,12.7) 10(1.35,11.43) 11(-1.35,10.16) 12(1.35,8.89) 13(-1.35,7.62) 14(1.35,6.35) 15(-1.35,5.08) 16(1.35,3.81) 17(-1.35,2.54) 18(1.35,1.27) 19(-1.35,0) 20(1.35,-1.27) 21(-1.35,-2.54) 22(1.35,-3.81) 23(-1.35,-5.08) 24(1.35,-6.35) 25(-1.35,-7.62) 26(1.35,-8.89) 27(-1.35,-10.16) 28(1.35,-11.43) 29(-1.35,-12.7) 30(1.35,-13.97) 31(-1.35,-15.24) 32(1.35,-16.51) 33(-1.35,-17.78) 34(1.35,-19.05) 35(-1.35,-20.32) 36(1.35,-21.59) 37(-1.35,-22.86)
F.SilkS:
  lines w0.254: -2.19,23.445 -0.96,23.445 -0.96,23.73 0.96,23.73 0.96,22.175 ; -0.96,-23.445 -0.96,-23.73 0.96,-23.73 0.96,-22.175 ; -0.96,-22.275 -0.96,-20.905 ; -0.96,-19.735 -0.96,-18.365 ; -0.96,-17.195 -0.96,-15.825 ; -0.96,-14.655 -0.96,-13.285 ; -0.96,-12.115 -0.96,-10.745 ; -0.96,-9.575 -0.96,-8.205 ; -0.96,-7.035 -0.96,-5.665 ; -0.96,-4.495 -0.96,-3.125 ; -0.96,-1.955 -0.96,-0.585 ; -0.96,0.585 -0.96,1.955 ; -0.96,3.125 -0.96,4.495 ; -0.96,5.665 -0.96,7.035 ; -0.96,8.205 -0.96,9.575 ; -0.96,10.745 -0.96,12.115 ; -0.96,13.285 -0.96,14.655 ; -0.96,15.825 -0.96,17.195 ; -0.96,18.365 -0.96,19.735 ; -0.96,20.905 -0.96,22.275 ; 0.96,-21.005 0.96,-19.635 ; 0.96,-18.465 0.96,-17.095 ; 0.96,-15.925 0.96,-14.555 ; 0.96,-13.385 0.96,-12.015 ; 0.96,-10.845 0.96,-9.475 ; 0.96,-8.305 0.96,-6.935 ; 0.96,-5.765 0.96,-4.395 ; 0.96,-3.225 0.96,-1.855 ; 0.96,-0.685 0.96,0.685 ; 0.96,1.855 0.96,3.225 ; 0.96,4.395 0.96,5.765 ; 0.96,6.935 0.96,8.305 ; 0.96,9.475 0.96,10.845 ; 0.96,12.015 0.96,13.385 ; 0.96,14.555 0.96,15.925 ; 0.96,17.095 0.96,18.465 ; 0.96,19.635 0.96,21.005
Top Assembly:
  lines w0.254: -0.9,-23.07 -1.75,-23.07 -1.75,-22.65 -0.9,-22.65 ; -0.9,-20.53 -1.75,-20.53 -1.75,-20.11 -0.9,-20.11 ; -0.9,-17.99 -1.75,-17.99 -1.75,-17.57 -0.9,-17.57 ; -0.9,-15.45 -1.75,-15.45 -1.75,-15.03 -0.9,-15.03 ; -0.9,-12.91 -1.75,-12.91 -1.75,-12.49 -0.9,-12.49 ; -0.9,-10.37 -1.75,-10.37 -1.75,-9.95 -0.9,-9.95 ; -0.9,-7.83 -1.75,-7.83 -1.75,-7.41 -0.9,-7.41 ; -0.9,-5.29 -1.75,-5.29 -1.75,-4.87 -0.9,-4.87 ; -0.9,-2.75 -1.75,-2.75 -1.75,-2.33 -0.9,-2.33 ; -0.9,-0.21 -1.75,-0.21 -1.75,0.21 -0.9,0.21 ; -0.9,2.33 -1.75,2.33 -1.75,2.75 -0.9,2.75 ; -0.9,4.87 -1.75,4.87 -1.75,5.29 -0.9,5.29 ; -0.9,7.41 -1.75,7.41 -1.75,7.83 -0.9,7.83 ; -0.9,9.95 -1.75,9.95 -1.75,10.37 -0.9,10.37 ; -0.9,12.49 -1.75,12.49 -1.75,12.91 -0.9,12.91 ; -0.9,15.03 -1.75,15.03 -1.75,15.45 -0.9,15.45 ; -0.9,17.57 -1.75,17.57 -1.75,17.99 -0.9,17.99 ; -0.9,20.11 -1.75,20.11 -1.75,20.53 -0.9,20.53 ; -0.9,22.65 -1.75,22.65 -1.75,23.07 -0.9,23.07 ; 0.9,-21.8 1.75,-21.8 1.75,-21.38 0.9,-21.38 ; 0.9,-19.26 1.75,-19.26 1.75,-18.84 0.9,-18.84 ; 0.9,-16.72 1.75,-16.72 1.75,-16.3 0.9,-16.3 ; 0.9,-14.18 1.75,-14.18 1.75,-13.76 0.9,-13.76 ; 0.9,-11.64 1.75,-11.64 1.75,-11.22 0.9,-11.22 ; 0.9,-9.1 1.75,-9.1 1.75,-8.68 0.9,-8.68 ; 0.9,-6.56 1.75,-6.56 1.75,-6.14 0.9,-6.14 ; 0.9,-4.02 1.75,-4.02 1.75,-3.6 0.9,-3.6 ; 0.9,-1.48 1.75,-1.48 1.75,-1.06 0.9,-1.06 ; 0.9,1.06 1.75,1.06 1.75,1.48 0.9,1.48 ; 0.9,3.6 1.75,3.6 1.75,4.02 0.9,4.02 ; 0.9,6.14 1.75,6.14 1.75,6.56 0.9,6.56 ; 0.9,8.68 1.75,8.68 1.75,9.1 0.9,9.1 ; 0.9,11.22 1.75,11.22 1.75,11.64 0.9,11.64 ; 0.9,13.76 1.75,13.76 1.75,14.18 0.9,14.18 ; 0.9,16.3 1.75,16.3 1.75,16.72 0.9,16.72 ; 0.9,18.84 1.75,18.84 1.75,19.26 0.9,19.26 ; 0.9,21.38 1.75,21.38 1.75,21.8 0.9,21.8 ; -0.9,-23.67 0.9,-23.67 0.9,23.67 -0.45,23.67 -0.9,23.22 -0.9,-23.67
  text "'.Designator'" at 0.84,-4.047 h1
Top Courtyard:
  lines w0.254: -2.75,-24.1 2.75,-24.1 2.75,24.25 -2.75,24.25 -2.75,-24.1
Top Designator:
  text ".Designator" at -7.618,-0.433 h1.52

## PinSocket_1x37_P1.27mm_Vertical_SMD_Pin1Right [mm]
pads (37):
  rect 1.8x0.65 smd: 1(1.35,22.86) 2(-1.35,21.59) 3(1.35,20.32) 4(-1.35,19.05) 5(1.35,17.78) 6(-1.35,16.51) 7(1.35,15.24) 8(-1.35,13.97) 9(1.35,12.7) 10(-1.35,11.43) 11(1.35,10.16) 12(-1.35,8.89) 13(1.35,7.62) 14(-1.35,6.35) 15(1.35,5.08) 16(-1.35,3.81) 17(1.35,2.54) 18(-1.35,1.27) 19(1.35,0) 20(-1.35,-1.27) 21(1.35,-2.54) 22(-1.35,-3.81) 23(1.35,-5.08) 24(-1.35,-6.35) 25(1.35,-7.62) 26(-1.35,-8.89) 27(1.35,-10.16) 28(-1.35,-11.43) 29(1.35,-12.7) 30(-1.35,-13.97) 31(1.35,-15.24) 32(-1.35,-16.51) 33(1.35,-17.78) 34(-1.35,-19.05) 35(1.35,-20.32) 36(-1.35,-21.59) 37(1.35,-22.86)
F.SilkS:
  lines w0.254: -0.96,-22.175 -0.96,-23.73 0.96,-23.73 0.96,-23.445 ; -0.96,-21.005 -0.96,-19.635 ; -0.96,-18.465 -0.96,-17.095 ; -0.96,-15.925 -0.96,-14.555 ; -0.96,-13.385 -0.96,-12.015 ; -0.96,-10.845 -0.96,-9.475 ; -0.96,-8.305 -0.96,-6.935 ; -0.96,-5.765 -0.96,-4.395 ; -0.96,-3.225 -0.96,-1.855 ; -0.96,-0.685 -0.96,0.685 ; -0.96,1.855 -0.96,3.225 ; -0.96,4.395 -0.96,5.765 ; -0.96,6.935 -0.96,8.305 ; -0.96,9.475 -0.96,10.845 ; -0.96,12.015 -0.96,13.385 ; -0.96,14.555 -0.96,15.925 ; -0.96,17.095 -0.96,18.465 ; -0.96,19.635 -0.96,21.005 ; -0.96,22.175 -0.96,23.73 0.96,23.73 0.96,23.445 2.19,23.445 ; 0.96,-22.275 0.96,-20.905 ; 0.96,-19.735 0.96,-18.365 ; 0.96,-17.195 0.96,-15.825 ; 0.96,-14.655 0.96,-13.285 ; 0.96,-12.115 0.96,-10.745 ; 0.96,-9.575 0.96,-8.205 ; 0.96,-7.035 0.96,-5.665 ; 0.96,-4.495 0.96,-3.125 ; 0.96,-1.955 0.96,-0.585 ; 0.96,0.585 0.96,1.955 ; 0.96,3.125 0.96,4.495 ; 0.96,5.665 0.96,7.035 ; 0.96,8.205 0.96,9.575 ; 0.96,10.745 0.96,12.115 ; 0.96,13.285 0.96,14.655 ; 0.96,15.825 0.96,17.195 ; 0.96,18.365 0.96,19.735 ; 0.96,20.905 0.96,22.275
Top Assembly:
  lines w0.254: -0.9,-21.8 -1.75,-21.8 -1.75,-21.38 -0.9,-21.38 ; -0.9,-19.26 -1.75,-19.26 -1.75,-18.84 -0.9,-18.84 ; -0.9,-16.72 -1.75,-16.72 -1.75,-16.3 -0.9,-16.3 ; -0.9,-14.18 -1.75,-14.18 -1.75,-13.76 -0.9,-13.76 ; -0.9,-11.64 -1.75,-11.64 -1.75,-11.22 -0.9,-11.22 ; -0.9,-9.1 -1.75,-9.1 -1.75,-8.68 -0.9,-8.68 ; -0.9,-6.56 -1.75,-6.56 -1.75,-6.14 -0.9,-6.14 ; -0.9,-4.02 -1.75,-4.02 -1.75,-3.6 -0.9,-3.6 ; -0.9,-1.48 -1.75,-1.48 -1.75,-1.06 -0.9,-1.06 ; -0.9,1.06 -1.75,1.06 -1.75,1.48 -0.9,1.48 ; -0.9,3.6 -1.75,3.6 -1.75,4.02 -0.9,4.02 ; -0.9,6.14 -1.75,6.14 -1.75,6.56 -0.9,6.56 ; -0.9,8.68 -1.75,8.68 -1.75,9.1 -0.9,9.1 ; -0.9,11.22 -1.75,11.22 -1.75,11.64 -0.9,11.64 ; -0.9,13.76 -1.75,13.76 -1.75,14.18 -0.9,14.18 ; -0.9,16.3 -1.75,16.3 -1.75,16.72 -0.9,16.72 ; -0.9,18.84 -1.75,18.84 -1.75,19.26 -0.9,19.26 ; -0.9,21.38 -1.75,21.38 -1.75,21.8 -0.9,21.8 ; 0.9,-23.07 1.75,-23.07 1.75,-22.65 0.9,-22.65 ; 0.9,-20.53 1.75,-20.53 1.75,-20.11 0.9,-20.11 ; 0.9,-17.99 1.75,-17.99 1.75,-17.57 0.9,-17.57 ; 0.9,-15.45 1.75,-15.45 1.75,-15.03 0.9,-15.03 ; 0.9,-12.91 1.75,-12.91 1.75,-12.49 0.9,-12.49 ; 0.9,-10.37 1.75,-10.37 1.75,-9.95 0.9,-9.95 ; 0.9,-7.83 1.75,-7.83 1.75,-7.41 0.9,-7.41 ; 0.9,-5.29 1.75,-5.29 1.75,-4.87 0.9,-4.87 ; 0.9,-2.75 1.75,-2.75 1.75,-2.33 0.9,-2.33 ; 0.9,-0.21 1.75,-0.21 1.75,0.21 0.9,0.21 ; 0.9,2.33 1.75,2.33 1.75,2.75 0.9,2.75 ; 0.9,4.87 1.75,4.87 1.75,5.29 0.9,5.29 ; 0.9,7.41 1.75,7.41 1.75,7.83 0.9,7.83 ; 0.9,9.95 1.75,9.95 1.75,10.37 0.9,10.37 ; 0.9,12.49 1.75,12.49 1.75,12.91 0.9,12.91 ; 0.9,15.03 1.75,15.03 1.75,15.45 0.9,15.45 ; 0.9,17.57 1.75,17.57 1.75,17.99 0.9,17.99 ; 0.9,20.11 1.75,20.11 1.75,20.53 0.9,20.53 ; 0.9,22.65 1.75,22.65 1.75,23.07 0.9,23.07 ; -0.9,-23.67 0.9,-23.67 0.9,23.22 0.45,23.67 -0.9,23.67 -0.9,-23.67
  text "'.Designator'" at 0.84,-4.047 h1
Top Courtyard:
  lines w0.254: -2.75,-24.1 2.75,-24.1 2.75,24.25 -2.75,24.25 -2.75,-24.1
Top Designator:
  text ".Designator" at -7.618,-0.433 h1.52

## PinSocket_1x38_P1.27mm_Vertical [mm]
pads (38):
  rect 1x1 hole 0.7: 1(0,0)
  round 1 hole 0.7: 2(0,-1.27) 3(0,-2.54) 4(0,-3.81) 5(0,-5.08) 6(0,-6.35) 7(0,-7.62) 8(0,-8.89) 9(0,-10.16) 10(0,-11.43) 11(0,-12.7) 12(0,-13.97) 13(0,-15.24) 14(0,-16.51) 15(0,-17.78) 16(0,-19.05) 17(0,-20.32) 18(0,-21.59) 19(0,-22.86) 20(0,-24.13) 21(0,-25.4) 22(0,-26.67) 23(0,-27.94) 24(0,-29.21) 25(0,-30.48) 26(0,-31.75) 27(0,-33.02) 28(0,-34.29) 29(0,-35.56) 30(0,-36.83) 31(0,-38.1) 32(0,-39.37) 33(0,-40.64) 34(0,-41.91) 35(0,-43.18) 36(0,-44.45) 37(0,-45.72) 38(0,-46.99)
F.SilkS:
  lines w0.254: -0.76,-0.635 -1.33,-0.635 -1.33,-47.685 -0.308,-47.685 ; 0,0.76 1.33,0.76 1.33,0 ; 0.308,-47.685 1.33,-47.685 1.33,-0.635 0.76,-0.635
Top Assembly:
  lines w0.254: -1.27,-47.625 1.27,-47.625 1.27,0 0.635,0.635 -1.27,0.635 -1.27,-47.625
  text "'.Designator'" at 0.84,-27.542 h1
Top Courtyard:
  lines w0.254: -1.8,-48.15 1.75,-48.15 1.75,1.15 -1.8,1.15 -1.8,-48.15
Top Designator:
  text ".Designator" at -7.643,-24.008 h1.52

## PinSocket_1x38_P1.27mm_Vertical_SMD_Pin1Left [mm]
pads (38):
  rect 1.8x0.65 smd: 1(-1.35,23.495) 2(1.35,22.225) 3(-1.35,20.955) 4(1.35,19.685) 5(-1.35,18.415) 6(1.35,17.145) 7(-1.35,15.875) 8(1.35,14.605) 9(-1.35,13.335) 10(1.35,12.065) 11(-1.35,10.795) 12(1.35,9.525) 13(-1.35,8.255) 14(1.35,6.985) 15(-1.35,5.715) 16(1.35,4.445) 17(-1.35,3.175) 18(1.35,1.905) 19(-1.35,0.635) 20(1.35,-0.635) 21(-1.35,-1.905) 22(1.35,-3.175) 23(-1.35,-4.445) 24(1.35,-5.715) 25(-1.35,-6.985) 26(1.35,-8.255) 27(-1.35,-9.525) 28(1.35,-10.795) 29(-1.35,-12.065) 30(1.35,-13.335) 31(-1.35,-14.605) 32(1.35,-15.875) 33(-1.35,-17.145) 34(1.35,-18.415) 35(-1.35,-19.685) 36(1.35,-20.955) 37(-1.35,-22.225) 38(1.35,-23.495)
F.SilkS:
  lines w0.254: -2.19,24.08 -0.96,24.08 -0.96,24.365 0.96,24.365 0.96,22.81 ; -0.96,-22.81 -0.96,-24.365 0.96,-24.365 0.96,-24.08 ; -0.96,-21.64 -0.96,-20.27 ; -0.96,-19.1 -0.96,-17.73 ; -0.96,-16.56 -0.96,-15.19 ; -0.96,-14.02 -0.96,-12.65 ; -0.96,-11.48 -0.96,-10.11 ; -0.96,-8.94 -0.96,-7.57 ; -0.96,-6.4 -0.96,-5.03 ; -0.96,-3.86 -0.96,-2.49 ; -0.96,-1.32 -0.96,0.05 ; -0.96,1.22 -0.96,2.59 ; -0.96,3.76 -0.96,5.13 ; -0.96,6.3 -0.96,7.67 ; -0.96,8.84 -0.96,10.21 ; -0.96,11.38 -0.96,12.75 ; -0.96,13.92 -0.96,15.29 ; -0.96,16.46 -0.96,17.83 ; -0.96,19 -0.96,20.37 ; -0.96,21.54 -0.96,22.91 ; 0.96,-22.91 0.96,-21.54 ; 0.96,-20.37 0.96,-19 ; 0.96,-17.83 0.96,-16.46 ; 0.96,-15.29 0.96,-13.92 ; 0.96,-12.75 0.96,-11.38 ; 0.96,-10.21 0.96,-8.84 ; 0.96,-7.67 0.96,-6.3 ; 0.96,-5.13 0.96,-3.76 ; 0.96,-2.59 0.96,-1.22 ; 0.96,-0.05 0.96,1.32 ; 0.96,2.49 0.96,3.86 ; 0.96,5.03 0.96,6.4 ; 0.96,7.57 0.96,8.94 ; 0.96,10.11 0.96,11.48 ; 0.96,12.65 0.96,14.02 ; 0.96,15.19 0.96,16.56 ; 0.96,17.73 0.96,19.1 ; 0.96,20.27 0.96,21.64
Top Assembly:
  lines w0.254: -0.9,-22.435 -1.75,-22.435 -1.75,-22.015 -0.9,-22.015 ; -0.9,-19.895 -1.75,-19.895 -1.75,-19.475 -0.9,-19.475 ; -0.9,-17.355 -1.75,-17.355 -1.75,-16.935 -0.9,-16.935 ; -0.9,-14.815 -1.75,-14.815 -1.75,-14.395 -0.9,-14.395 ; -0.9,-12.275 -1.75,-12.275 -1.75,-11.855 -0.9,-11.855 ; -0.9,-9.735 -1.75,-9.735 -1.75,-9.315 -0.9,-9.315 ; -0.9,-7.195 -1.75,-7.195 -1.75,-6.775 -0.9,-6.775 ; -0.9,-4.655 -1.75,-4.655 -1.75,-4.235 -0.9,-4.235 ; -0.9,-2.115 -1.75,-2.115 -1.75,-1.695 -0.9,-1.695 ; -0.9,0.425 -1.75,0.425 -1.75,0.845 -0.9,0.845 ; -0.9,2.965 -1.75,2.965 -1.75,3.385 -0.9,3.385 ; -0.9,5.505 -1.75,5.505 -1.75,5.925 -0.9,5.925 ; -0.9,8.045 -1.75,8.045 -1.75,8.465 -0.9,8.465 ; -0.9,10.585 -1.75,10.585 -1.75,11.005 -0.9,11.005 ; -0.9,13.125 -1.75,13.125 -1.75,13.545 -0.9,13.545 ; -0.9,15.665 -1.75,15.665 -1.75,16.085 -0.9,16.085 ; -0.9,18.205 -1.75,18.205 -1.75,18.625 -0.9,18.625 ; -0.9,20.745 -1.75,20.745 -1.75,21.165 -0.9,21.165 ; -0.9,23.285 -1.75,23.285 -1.75,23.705 -0.9,23.705 ; 0.9,-23.705 1.75,-23.705 1.75,-23.285 0.9,-23.285 ; 0.9,-21.165 1.75,-21.165 1.75,-20.745 0.9,-20.745 ; 0.9,-18.625 1.75,-18.625 1.75,-18.205 0.9,-18.205 ; 0.9,-16.085 1.75,-16.085 1.75,-15.665 0.9,-15.665 ; 0.9,-13.545 1.75,-13.545 1.75,-13.125 0.9,-13.125 ; 0.9,-11.005 1.75,-11.005 1.75,-10.585 0.9,-10.585 ; 0.9,-8.465 1.75,-8.465 1.75,-8.045 0.9,-8.045 ; 0.9,-5.925 1.75,-5.925 1.75,-5.505 0.9,-5.505 ; 0.9,-3.385 1.75,-3.385 1.75,-2.965 0.9,-2.965 ; 0.9,-0.845 1.75,-0.845 1.75,-0.425 0.9,-0.425 ; 0.9,1.695 1.75,1.695 1.75,2.115 0.9,2.115 ; 0.9,4.235 1.75,4.235 1.75,4.655 0.9,4.655 ; 0.9,6.775 1.75,6.775 1.75,7.195 0.9,7.195 ; 0.9,9.315 1.75,9.315 1.75,9.735 0.9,9.735 ; 0.9,11.855 1.75,11.855 1.75,12.275 0.9,12.275 ; 0.9,14.395 1.75,14.395 1.75,14.815 0.9,14.815 ; 0.9,16.935 1.75,16.935 1.75,17.355 0.9,17.355 ; 0.9,19.475 1.75,19.475 1.75,19.895 0.9,19.895 ; 0.9,22.015 1.75,22.015 1.75,22.435 0.9,22.435 ; -0.9,-24.305 0.9,-24.305 0.9,24.305 -0.45,24.305 -0.9,23.855 -0.9,-24.305
  text "'.Designator'" at 0.84,-4.047 h1
Top Courtyard:
  lines w0.254: -2.75,-24.85 2.75,-24.85 2.75,24.85 -2.75,24.85 -2.75,-24.85
Top Designator:
  text ".Designator" at -7.618,-0.508 h1.52

## PinSocket_1x38_P1.27mm_Vertical_SMD_Pin1Right [mm]
pads (38):
  rect 1.8x0.65 smd: 1(1.35,23.495) 2(-1.35,22.225) 3(1.35,20.955) 4(-1.35,19.685) 5(1.35,18.415) 6(-1.35,17.145) 7(1.35,15.875) 8(-1.35,14.605) 9(1.35,13.335) 10(-1.35,12.065) 11(1.35,10.795) 12(-1.35,9.525) 13(1.35,8.255) 14(-1.35,6.985) 15(1.35,5.715) 16(-1.35,4.445) 17(1.35,3.175) 18(-1.35,1.905) 19(1.35,0.635) 20(-1.35,-0.635) 21(1.35,-1.905) 22(-1.35,-3.175) 23(1.35,-4.445) 24(-1.35,-5.715) 25(1.35,-6.985) 26(-1.35,-8.255) 27(1.35,-9.525) 28(-1.35,-10.795) 29(1.35,-12.065) 30(-1.35,-13.335) 31(1.35,-14.605) 32(-1.35,-15.875) 33(1.35,-17.145) 34(-1.35,-18.415) 35(1.35,-19.685) 36(-1.35,-20.955) 37(1.35,-22.225) 38(-1.35,-23.495)
F.SilkS:
  lines w0.254: -0.96,-24.08 -0.96,-24.365 0.96,-24.365 0.96,-22.81 ; -0.96,-22.91 -0.96,-21.54 ; -0.96,-20.37 -0.96,-19 ; -0.96,-17.83 -0.96,-16.46 ; -0.96,-15.29 -0.96,-13.92 ; -0.96,-12.75 -0.96,-11.38 ; -0.96,-10.21 -0.96,-8.84 ; -0.96,-7.67 -0.96,-6.3 ; -0.96,-5.13 -0.96,-3.76 ; -0.96,-2.59 -0.96,-1.22 ; -0.96,-0.05 -0.96,1.32 ; -0.96,2.49 -0.96,3.86 ; -0.96,5.03 -0.96,6.4 ; -0.96,7.57 -0.96,8.94 ; -0.96,10.11 -0.96,11.48 ; -0.96,12.65 -0.96,14.02 ; -0.96,15.19 -0.96,16.56 ; -0.96,17.73 -0.96,19.1 ; -0.96,20.27 -0.96,21.64 ; -0.96,22.81 -0.96,24.365 0.96,24.365 0.96,24.08 2.19,24.08 ; 0.96,-21.64 0.96,-20.27 ; 0.96,-19.1 0.96,-17.73 ; 0.96,-16.56 0.96,-15.19 ; 0.96,-14.02 0.96,-12.65 ; 0.96,-11.48 0.96,-10.11 ; 0.96,-8.94 0.96,-7.57 ; 0.96,-6.4 0.96,-5.03 ; 0.96,-3.86 0.96,-2.49 ; 0.96,-1.32 0.96,0.05 ; 0.96,1.22 0.96,2.59 ; 0.96,3.76 0.96,5.13 ; 0.96,6.3 0.96,7.67 ; 0.96,8.84 0.96,10.21 ; 0.96,11.38 0.96,12.75 ; 0.96,13.92 0.96,15.29 ; 0.96,16.46 0.96,17.83 ; 0.96,19 0.96,20.37 ; 0.96,21.54 0.96,22.91
Top Assembly:
  lines w0.254: -0.9,-23.705 -1.75,-23.705 -1.75,-23.285 -0.9,-23.285 ; -0.9,-21.165 -1.75,-21.165 -1.75,-20.745 -0.9,-20.745 ; -0.9,-18.625 -1.75,-18.625 -1.75,-18.205 -0.9,-18.205 ; -0.9,-16.085 -1.75,-16.085 -1.75,-15.665 -0.9,-15.665 ; -0.9,-13.545 -1.75,-13.545 -1.75,-13.125 -0.9,-13.125 ; -0.9,-11.005 -1.75,-11.005 -1.75,-10.585 -0.9,-10.585 ; -0.9,-8.465 -1.75,-8.465 -1.75,-8.045 -0.9,-8.045 ; -0.9,-5.925 -1.75,-5.925 -1.75,-5.505 -0.9,-5.505 ; -0.9,-3.385 -1.75,-3.385 -1.75,-2.965 -0.9,-2.965 ; -0.9,-0.845 -1.75,-0.845 -1.75,-0.425 -0.9,-0.425 ; -0.9,1.695 -1.75,1.695 -1.75,2.115 -0.9,2.115 ; -0.9,4.235 -1.75,4.235 -1.75,4.655 -0.9,4.655 ; -0.9,6.775 -1.75,6.775 -1.75,7.195 -0.9,7.195 ; -0.9,9.315 -1.75,9.315 -1.75,9.735 -0.9,9.735 ; -0.9,11.855 -1.75,11.855 -1.75,12.275 -0.9,12.275 ; -0.9,14.395 -1.75,14.395 -1.75,14.815 -0.9,14.815 ; -0.9,16.935 -1.75,16.935 -1.75,17.355 -0.9,17.355 ; -0.9,19.475 -1.75,19.475 -1.75,19.895 -0.9,19.895 ; -0.9,22.015 -1.75,22.015 -1.75,22.435 -0.9,22.435 ; 0.9,-22.435 1.75,-22.435 1.75,-22.015 0.9,-22.015 ; 0.9,-19.895 1.75,-19.895 1.75,-19.475 0.9,-19.475 ; 0.9,-17.355 1.75,-17.355 1.75,-16.935 0.9,-16.935 ; 0.9,-14.815 1.75,-14.815 1.75,-14.395 0.9,-14.395 ; 0.9,-12.275 1.75,-12.275 1.75,-11.855 0.9,-11.855 ; 0.9,-9.735 1.75,-9.735 1.75,-9.315 0.9,-9.315 ; 0.9,-7.195 1.75,-7.195 1.75,-6.775 0.9,-6.775 ; 0.9,-4.655 1.75,-4.655 1.75,-4.235 0.9,-4.235 ; 0.9,-2.115 1.75,-2.115 1.75,-1.695 0.9,-1.695 ; 0.9,0.425 1.75,0.425 1.75,0.845 0.9,0.845 ; 0.9,2.965 1.75,2.965 1.75,3.385 0.9,3.385 ; 0.9,5.505 1.75,5.505 1.75,5.925 0.9,5.925 ; 0.9,8.045 1.75,8.045 1.75,8.465 0.9,8.465 ; 0.9,10.585 1.75,10.585 1.75,11.005 0.9,11.005 ; 0.9,13.125 1.75,13.125 1.75,13.545 0.9,13.545 ; 0.9,15.665 1.75,15.665 1.75,16.085 0.9,16.085 ; 0.9,18.205 1.75,18.205 1.75,18.625 0.9,18.625 ; 0.9,20.745 1.75,20.745 1.75,21.165 0.9,21.165 ; 0.9,23.285 1.75,23.285 1.75,23.705 0.9,23.705 ; -0.9,-24.305 0.9,-24.305 0.9,23.855 0.45,24.305 -0.9,24.305 -0.9,-24.305
  text "'.Designator'" at 0.84,-4.047 h1
Top Courtyard:
  lines w0.254: -2.75,-24.85 2.75,-24.85 2.75,24.85 -2.75,24.85 -2.75,-24.85
Top Designator:
  text ".Designator" at -7.618,-0.508 h1.52